# EAGLE library part RA02 (library soumilcustom)
AI-Thinker RA-02 LoRa Module RA02 LoRa Module
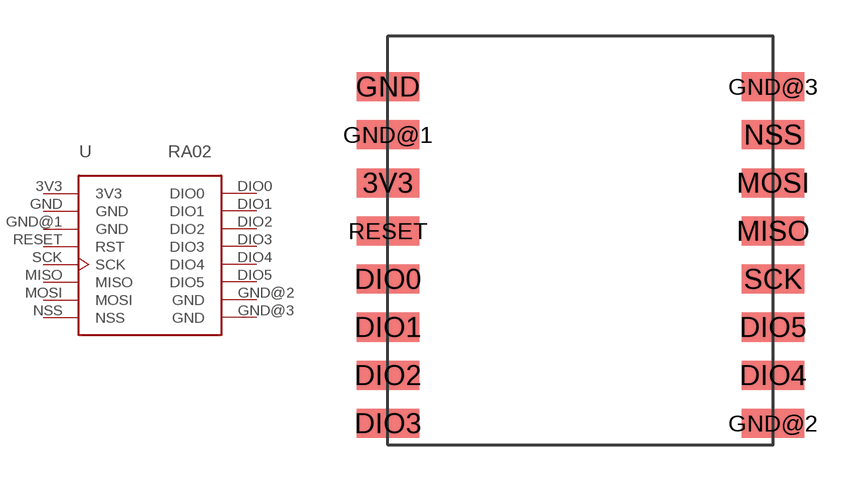
[diagram p6: symbol with the pads of RA02; footprint RA02]

Designator prefix -

## RA02  [RA02]
3V3  3V3  pwr
DIO0  DIO0
DIO1  DIO1
DIO2  DIO2
DIO3  DIO3
DIO4  DIO4
DIO5  DIO5
GND  GND  pwr
GND@1  GND  pwr
GND@2  GND  pwr
GND@3  GND
MISO  MISO
MOSI  MOSI
NSS  NSS
RESET  RST
SCK  SCK

## Footprint RA02 (pad centres in mm)
AI-Thinker RA-02 LoRa Module
smd 2.6 x 1.21: 3V3 -7.62,2.38; DIO0 -7.62,-1.62; DIO1 -7.62,-3.62; DIO2 -7.62,-5.62; DIO3 -7.62,-7.62; DIO4 8.38,-5.62; DIO5 8.38,-3.62; GND -7.62,6.38; GND@1 -7.62,4.38; GND@2 8.38,-7.62; GND@3 8.38,6.38; MISO 8.38,0.38; MOSI 8.38,2.38; NSS 8.38,4.38; RESET -7.62,0.38; SCK 8.38,-1.62